# Altium footprint library Qi Adapter PCB Components.PcbLib: 5 footprints
Each footprint in its own frame and in the unit in brackets; x right, y up, seen from the top. Pads: shape width x height; smd on the part's side, far side on the other; paste and mask are expansions set on the pad; w line width, h text height; cw(c..) or ccw(c..) is an arc to the next point about the centre after c.
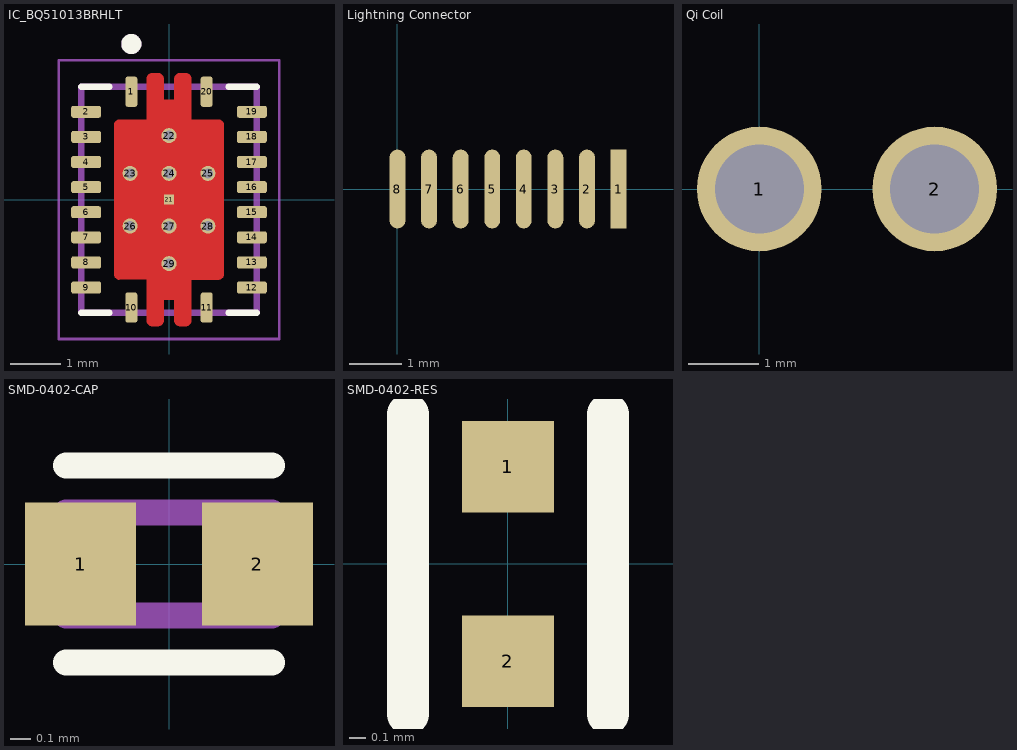
[diagram p0: the footprints below, top view; thin cyan lines are the x and y axes]

## IC_BQ51013BRHLT [mm]
pads (29):
  rrect40% 0.24x0.6 smd mask+0: 1(-0.75,2.15) 10(-0.75,-2.15) 11(0.75,-2.15) 20(0.75,2.15)
  rrect40% 0.6x0.24 smd mask+0: 2(-1.65,1.75) 3(-1.65,1.25) 4(-1.65,0.75) 5(-1.65,0.25) 6(-1.65,-0.25) 7(-1.65,-0.75) 8(-1.65,-1.25) 9(-1.65,-1.75) 12(1.65,-1.75) 13(1.65,-1.25) 14(1.65,-0.75) 15(1.65,-0.25) 16(1.65,0.25) 17(1.65,0.75) 18(1.65,1.25) 19(1.65,1.75)
  rect 0.2x0.2 smd paste-1 mask+0: 21(0,0)
  round 0.3 hole 0.2 mask+0: 22(0,1.275) 23(-0.775,0.525) 24(0,0.525) 25(0.775,0.525) 26(-0.775,-0.525) 27(0,-0.525) 28(0.775,-0.525) 29(0,-1.275)
Top Layer:
  region: 380 vertices and 0 holes, not listed, extent -1.095,-2.52 1.095,2.52
Top Overlay:
  circle w0.2: c-0.75,3.1 r0.1
  lines w0.127: -1.75,-2.25 -1.184,-2.25 ; -1.75,2.25 -1.184,2.25 ; 1.184,-2.25 1.75,-2.25 ; 1.184,2.25 1.75,2.25
Top Paste:
  drawing of 8 lines, arcs and shapes, not listed
Top Solder:
  drawing of 21 lines, arcs and shapes, not listed
Mechanical 13:
  circle w0.2: c-0.75,3.1 r0.1
  lines w0.127: -1.75,-2.25 1.75,-2.25 1.75,2.25 -1.75,2.25 -1.75,-2.25
Mechanical 15:
  lines w0.05: -2.2,-2.775 2.2,-2.775 2.2,2.775 -2.2,2.775 -2.2,-2.775
3D body: height 0.25, standoff 0, extent -1.651,-2.159 1.651,2.159

## Lightning Connector [mm]
pads (8):
  rect 0.3x1.5 smd: 1(4.2,0)
  oval 0.3x1.5 smd: 2(3.6,0) 3(3,0) 4(2.4,0) 5(1.8,0) 6(1.2,0) 7(0.6,0) 8(0,0)

## Qi Coil [mil] "Wireless Coil"
height 78.74
pads (2):
  round 70 hole 50: 1(0,0) 2(98.43,0)
3D body: height 10, standoff 0, extent 55,170 55,170
3D body: height 50, standoff 0, extent -50.79,50.13 149.21,249.87

## SMD-0402-CAP [mm]
pads (2):
  rect 0.54x0.6 smd: 1(-0.43,0) 2(0.43,0)
Top Overlay:
  lines w0.127: -0.5,-0.48 0.5,-0.48 ; -0.5,0.48 0.5,0.48
Mechanical 4:
  region: 0.25,0.25 0.5,0.25 0.5,-0.25 0.25,-0.25
  region: -0.5,0.25 -0.25,0.25 -0.25,-0.25 -0.5,-0.25
  region: 0.25,0.25 0.5,0.25 0.5,-0.25 0.25,-0.25
  region: -0.5,0.25 -0.25,0.25 -0.25,-0.25 -0.5,-0.25
  lines w0.127: -0.5,-0.25 -0.5,0.25 ; -0.5,-0.25 0.5,-0.25 ; -0.5,-0.25 -0.5,0.25 ; -0.5,-0.25 0.5,-0.25 ; -0.5,0.25 0.5,0.25 ; -0.5,0.25 0.5,0.25 ; 0.5,-0.25 0.5,0.25 ; 0.5,-0.25 0.5,0.25

## SMD-0402-RES [mm]
pads (2):
  rect 0.55x0.55 smd: 1(0,0.584) 2(0,-0.584)
Top Overlay:
  lines w0.254: -0.6,-0.9 -0.6,0.9 ; 0.6,-0.9 0.6,0.9
3D body "resistor0402.step": height 0.41, standoff 0, extent -0.275,-0.575 0.275,0.575